# Altium schematic symbol library Inductors.SchLib: 14 symbols
Pins are listed as number, name and electrical type; pins without a type are passive.

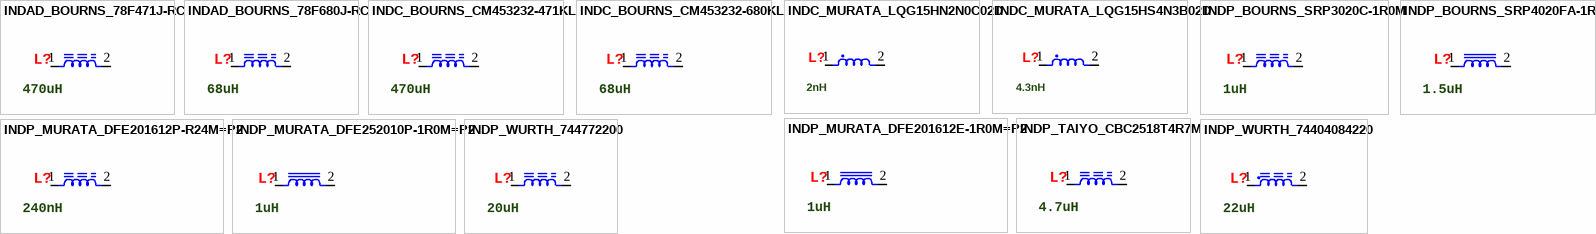
[diagram p0: symbols INDAD_BOURNS_78F471J-RC to INDP_WURTH_74404084220]

## INDAD_BOURNS_78F471J-RC
designator L?, comment 470uH
470 µH Unshielded Drum Core, Wirewound Inductor 90 mA 14Ohm Max Axial; Manufacturer: Bourns; Manufacturer Part Number: 78F471J-RC; Tolerance: 5%; DC Resistance (DCR): 14R; Current Rating: 90mA; Material - Core: Ferrite; Category: Fixed Inductors; Mounting Type: Through Hole; Case/Package: Axial; Min Operating Temperature: -55°C; Max Operating Temperature: 105°C; Inductance: 470uH; RoHS Compliant: Yes; ComponentLink1URL: https://www.bourns.com/docs/Product-Datasheets/78f_series.pdf; ComponentLink1Description: Datasheet; Supplier 1: Digi-Key; Supplier 2: Mouser; Supplier Part Number 1: M10142-ND; Supplier Part Number 2: 542-78F471-RC
footprint INDAD1827W51L711D279 (Inductor, Non-Polarized Axial Diameter; Lead Spacing 18.27mm, Lead Width 0.51mm, Body Length 7.11mm, Body Diameter 2.79mm)
simulation model Inductor (Model Description)
pins: 1, 2

## INDAD_BOURNS_78F680J-RC
designator L?, comment 68uH
68 µH Unshielded Drum Core, Wirewound Inductor 185 mA 3.3Ohm Max Axial; Manufacturer: Bourns; Manufacturer Part Number: 78F680J-RC; Tolerance: 5%; DC Resistance (DCR): 3.3R; Current Rating: 185mA; Material - Core: Ferrite; Category: Fixed Inductors; Case/Package: Axial; Min Operating Temperature: -55°C; Max Operating Temperature: 105°C; Inductance: 68uH; RoHS Compliant: Yes; ComponentLink1URL: https://www.bourns.com/docs/Product-Datasheets/78f_series.pdf; ComponentLink1Description: Datasheet; Mounting Type: Through Hole; Supplier 1: Digi-Key; Supplier 2: Mouser; Supplier Part Number 1: M10144-ND; Supplier Part Number 2: 542-78F680-RC
footprint INDAD1827W51L711D279 (Inductor, Non-Polarized Axial Diameter; Lead Spacing 18.27mm, Lead Width 0.51mm, Body Length 7.11mm, Body Diameter 2.79mm)
simulation model Inductor (Model Description)
pins: 1, 2

## INDC_BOURNS_CM453232-471KL
designator L?, comment 470uH
470 µH Unshielded Drum Core, Wirewound Inductor 62 mA 26Ohm Max 1812 (4532 Metric); Manufacturer: Bourns; Manufacturer Part Number: CM453232-471KL; Tolerance: 10%; Current Rating: 62mA; DC Resistance (DCR): 26R; Material - Core: Ferrite; Category: Fixed Inductors; Case/Package: 1812; Min Operating Temperature: -40°C; Max Operating Temperature: 100°C; Inductance: 470uH; RoHS Compliant: Yes; ComponentLink1Description: Datasheet; ComponentLink1URL: https://www.bourns.com/docs/Product-Datasheets/CM.pdf; Mounting Type: SMD/SMT; Supplier 1: Digi-Key; Supplier 2: Mouser; Supplier Part Number 1: CM453232-471KLCT-ND; Supplier Part Number 2: 652-CM453232-471KL
simulation model Inductor (Model Description)
footprint INDC4532X34L (Chip Inductor, 2-Leads, Body 4.50x3.20mm, IPC High Density)
footprint INDC4532X34N (Chip Inductor, 2-Leads, Body 4.50x3.20mm, IPC Medium Density)
footprint INDC4532X34M (Chip Inductor, 2-Leads, Body 4.50x3.20mm, IPC Low Density)
pins: 1, 2

## INDC_BOURNS_CM453232-680KL
designator L?, comment 68uH
68 µH Unshielded Drum Core, Wirewound Inductor 130 mA 6Ohm Max 1812 (4532 Metric); Manufacturer: Bourns; Manufacturer Part Number: CM453232-680KL; Tolerance: 10%; DC Resistance (DCR): 6R; Current Rating: 130mA; Material - Core: Ferrite; Category: Fixed Inductors; Case/Package: 1812; Min Operating Temperature: -40°C; Max Operating Temperature: 100°C; Inductance: 68uH; RoHS Compliant: Yes; ComponentLink1Description: Datasheet; ComponentLink1URL: https://www.bourns.com/docs/Product-Datasheets/CM.pdf; Mounting Type: SMD/SMT; Supplier 1: Digi-Key; Supplier 2: Mouser; Supplier Part Number 1: CM453232-680KLCT-ND; Supplier Part Number 2: 652-CM453232-680KL
simulation model Inductor (Model Description)
footprint INDC4532X34N (Chip Inductor, 2-Leads, Body 4.50x3.20mm, IPC Medium Density)
footprint INDC4532X34L (Chip Inductor, 2-Leads, Body 4.50x3.20mm, IPC High Density)
footprint INDC4532X34M (Chip Inductor, 2-Leads, Body 4.50x3.20mm, IPC Low Density)
pins: 1, 2

## INDC_MURATA_LQG15HN2N0C02D
designator L?, comment 2nH
2 nH Unshielded Multilayer Inductor 900 mA 90mOhm Max 0402 (1005 Metric); Manufacturer: Murata; Manufacturer Part Number: LQG15HN2N0C02D; Tolerance: ±0.2nH; Current Rating: 900mA; DC Resistance (DCR): 90mR; Material - Core: Air; Category: Fixed Inductors; Inductance: 2nH; ComponentLink1Description: Datasheet; ComponentLink1URL: https://search.murata.co.jp/Ceramy/image/img/P02/JELF243B-0009.pdf; Min Operating Temperature: -55°C; Max Operating Temperature: 125°C; Case/Package: 0402; RoHS Compliant: Yes; Supplier 1: Digi-Key; Supplier Part Number 1: 490-15076-1-ND; Supplier 2: Mouser; Supplier Part Number 2: 81-LQG15HN2N0C02D; Mounting Type: SMD/SMT
footprint INDC1005X55N (Chip Inductor, EIA 0402, Metric 1005, Body 1.00x0.50mm, IPC Medium Density)
footprint INDC1005X55M (Chip Inductor, EIA 0402, Metric 1005, Body 1.00x0.50mm, IPC Low Density)
footprint INDC1005X55L (Chip Inductor, EIA 0402, Metric 1005, Body 1.00x0.50mm, IPC High Density)
simulation model LQG15HN2N0C02 (Model Description)
pins: 1, 2

## INDC_MURATA_LQG15HS4N3B02D
designator L?, comment 4.3nH
4.3 nH Unshielded Multilayer Inductor 750 mA 140mOhm Max 0402 (1005 Metric); Manufacturer: Murata; Manufacturer Part Number: LQG15HS4N3B02D; Tolerance: ±0.1nH; Current Rating: 750mA; DC Resistance (DCR): 140mR; Material - Core: Air; Category: Fixed Inductors; Inductance: 4.3nH; ComponentLink1Description: Datasheet; ComponentLink1URL: https://search.murata.co.jp/Ceramy/image/img/P02/JELF243B-0010.pdf; Min Operating Temperature: -55°C; Max Operating Temperature: 125°C; Case/Package: 0402; RoHS Compliant: Yes; Supplier 1: Digi-Key; Supplier Part Number 1: 490-LQG15HS4N3B02DCT-ND; Supplier 2: Mouser; Supplier Part Number 2: 81-LQG15HS4N3B02D; Mounting Type: SMD/SMT
footprint INDC1005X55N (Chip Inductor, EIA 0402, Metric 1005, Body 1.00x0.50mm, IPC Medium Density)
footprint INDC1005X55M (Chip Inductor, EIA 0402, Metric 1005, Body 1.00x0.50mm, IPC Low Density)
footprint INDC1005X55L (Chip Inductor, EIA 0402, Metric 1005, Body 1.00x0.50mm, IPC High Density)
simulation model LQG15HS4N3B02 (Model Description)
pins: 1, 2

## INDP_BOURNS_SRP3020C-1R0M
designator L?, comment 1uH
1 µH Shielded Inductor 5 A 36mOhm Max Nonstandard; Manufacturer: Bourns; Manufacturer Part Number: SRP3020C-1R0M; Current Rating: 5A; DC Resistance (DCR): 36mR; Material - Core: Ferrite; Tolerance: ±20%; Category: Fixed Inductors; ComponentLink1Description: Datasheet; ComponentLink1URL: https://www.bourns.com/docs/product-datasheets/srp3020c.pdf; Case/Package: Nonstandard; Inductance: 1uH; Max Operating Temperature: 125°C; Min Operating Temperature: -40°C; RoHS Compliant: Yes; Supplier 1: Digi-Key; Supplier Part Number 1: 118-SRP3020C-1R0MCT-ND; Supplier 2: Mouser; Supplier Part Number 2: 652-SRP3020C-1R0M; Mounting Type: SMD/SMT
footprint INDP3532X20N (Precision Wire Wound Inductor, 2-Leads, Body 3.50x3.20mm, IPC Medium Density)
footprint INDP3532X20L (Precision Wire Wound Inductor, 2-Leads, Body 3.50x3.20mm, IPC High Density)
footprint INDP3532X20M (Precision Wire Wound Inductor, 2-Leads, Body 3.50x3.20mm, IPC Low Density)
simulation model Inductor (Model Description)
pins: 1, 2

## INDP_BOURNS_SRP4020FA-1R5M
designator L?, comment 1.5uH
1.5 µH Shielded Drum Core, Wirewound Inductor 9.1 A 15.8mOhm Max Nonstandard; Manufacturer: Bourns; Manufacturer Part Number: SRP4020FA-1R5M; Tolerance: ±20%; Current Rating: 9.1A; DC Resistance (DCR): 15.8mR; Material - Core: Iron Powder; Category: Fixed Inductors; Case/Package: Nonstandard; Min Operating Temperature: -55°C; Max Operating Temperature: 155°C; Inductance: 1.5uH; RoHS Compliant: Yes; ComponentLink1URL: https://www.bourns.com/docs/Product-Datasheets/SRP4020FA.pdf; ComponentLink1Description: Datasheet; Supplier 1: Mouser; Supplier Part Number 1: 652-SRP4020FA-1R5M; Mounting Type: SMD/SMT
footprint INDP4141X21N (Precision Wire Wound Inductor, 2-Leads, Body 4.10x4.10mm, IPC Medium Density)
footprint INDP4141X21M (Precision Wire Wound Inductor, 2-Leads, Body 4.10x4.10mm, IPC Low Density)
footprint INDP4141X21L (Precision Wire Wound Inductor, 2-Leads, Body 4.10x4.10mm, IPC High Density)
simulation model Inductor (Model Description)
pins: 1, 2

## INDP_MURATA_DFE201612E-1R0M=P2
designator L?, comment 1uH
1 µH Shielded Drum Core, Wirewound Inductor 2.9 A 48mOhm Max 0806 (2016 Metric); Manufacturer: Murata; Manufacturer Part Number: DFE201612E-1R0M=P2; Current Rating: 2.9A; DC Resistance (DCR): 48mR; Material - Core: Iron Powder; Tolerance: ±20%; Category: Fixed Inductors; RoHS Compliant: Yes; ComponentLink1URL: https://search.murata.co.jp/Ceramy/image/img/P02/J(E)TE243A-0006.pdf; ComponentLink1Description: Datasheet; Case/Package: 0806; Inductance: 1uH; Max Operating Temperature: 125°C; Min Operating Temperature: -40°C; Supplier 1: Digi-Key; Supplier Part Number 1: 490-16593-1-ND; Supplier 2: Mouser; Supplier Part Number 2: 81-DFE201612E-1R0MP2; Mounting Type: SMD/SMT
footprint INDC2016X12N (Chip Inductor, EIA 0806, Metric 2016, Body 2.00x1.60mm, IPC Medium Density)
footprint INDC2016X12L (Chip Inductor, EIA 0806, Metric 2016, Body 2.00x1.60mm, IPC High Density)
footprint INDC2016X12M (Chip Inductor, EIA 0806, Metric 2016, Body 2.00x1.60mm, IPC Low Density)
simulation model DFE201612E-1R0M (Model Description)
pins: 1, 2

## INDP_MURATA_DFE201612P-R24M=P2
designator L?, comment 240nH
240 nH Shielded Drum Core, Wirewound Inductor 6.5 A 23mOhm Max 0806 (2016 Metric); Manufacturer: Murata; Manufacturer Part Number: DFE201612P-R24M=P2; Current Rating: 6.5A; DC Resistance (DCR): 23mR; Tolerance: ±20%; Material - Core: Ferrite; Category: Fixed Inductors; Case/Package: 0806; Min Operating Temperature: -40°C; Max Operating Temperature: 125°C; Inductance: 240nH; RoHS Compliant: Yes; ComponentLink1URL: https://search.murata.co.jp/Ceramy/image/img/P02/J(E)TE243A-0033.pdf; ComponentLink1Description: Datasheet; Supplier 1: Digi-Key; Supplier Part Number 1: 490-10621-1-ND; Supplier 2: Mouser; Supplier Part Number 2: 81-DFE201612P-R24MP2; Mounting Type: SMD/SMT
footprint INDC2016X12N (Chip Inductor, EIA 0806, Metric 2016, Body 2.00x1.60mm, IPC Medium Density)
footprint INDC2016X12L (Chip Inductor, EIA 0806, Metric 2016, Body 2.00x1.60mm, IPC High Density)
footprint INDC2016X12M (Chip Inductor, EIA 0806, Metric 2016, Body 2.00x1.60mm, IPC Low Density)
simulation model DFE201612E-R24M (Model Description)
pins: 1, 2

## INDP_MURATA_DFE252010P-1R0M=P2
designator L?, comment 1uH
1 µH Shielded Drum Core, Wirewound Inductor 3.8 A 54mOhm Max 1008 (2520 Metric); Manufacturer: Murata; Manufacturer Part Number: DFE252010P-1R0M=P2; Current Rating: 3.8A; DC Resistance (DCR): 54mR; Tolerance: ±20%; Material - Core: Iron Powder; Category: Fixed Inductors; Case/Package: 1008; Min Operating Temperature: -40°C; Max Operating Temperature: 125°C; Inductance: 1uH; RoHS Compliant: Yes; ComponentLink1URL: https://www.murata.com/~/media/webrenewal/products/inductor/chip/tokoproducts/wirewoundmetalalloychiptype/m_dfe252010p.ashx; ComponentLink1Description: Datasheet; Supplier 1: Digi-Key; Supplier Part Number 1: 490-10634-1-ND; Supplier 2: Mouser; Supplier Part Number 2: 81-DFE252010P-1R0MP2; Mounting Type: SMD/SMT
footprint INDC2520X10N (Chip Inductor, EIA 1008, Metric 2520, Body 2.50x2.00mm, IPC Medium Density)
footprint INDC2520X10L (Chip Inductor, EIA 1008, Metric 2520, Body 2.50x2.00mm, IPC High Density)
footprint INDC2520X10M (Chip Inductor, EIA 1008, Metric 2520, Body 2.50x2.00mm, IPC Low Density)
simulation model DFE252010P-1R0M (Model Description)
pins: 1, 2

## INDP_TAIYO_CBC2518T4R7M
designator L?, comment 4.7uH
4.7 µH Unshielded Drum Core, Wirewound Inductor 920 mA 260mOhm Max 1007 (2518 Metric); Manufacturer: Taiyo Yuden; Manufacturer Part Number: CBC2518T4R7M; Tolerance: ±20%; DC Resistance (DCR): 260mR; Current Rating: 920mA; Material - Core: Ferrite; Category: Fixed Inductors; Case/Package: 1007; Min Operating Temperature: -40°C; Max Operating Temperature: 105°C; Inductance: 4.7uH; RoHS Compliant: Yes; ComponentLink1URL: https://media.digikey.com/pdf/Data%20Sheets/Taiyo%20Yuden%20PDFs%20URL%20links/CBC2518T4R7M_SS.pdf; ComponentLink1Description: Datasheet; Supplier 1: Digi-Key; Supplier Part Number 1: 587-1621-1-ND; Supplier 2: Mouser; Supplier Part Number 2: 963-CBC2518T4R7M; Mounting Type: SMD/SMT
footprint INDC2518X10N (Chip Inductor, EIA 1007, Metric 2518, Body 2.50x1.80mm, IPC Medium Density)
footprint INDC2518X10L (Chip Inductor, EIA 1007, Metric 2518, Body 2.50x1.80mm, IPC High Density)
footprint INDC2518X10M (Chip Inductor, EIA 1007, Metric 2518, Body 2.50x1.80mm, IPC Low Density)
simulation model LSQPA251818T4R7 (Model Description)
pins: 1, 2

## INDP_WURTH_744772200
designator L?, comment 20uH
20 µH Unshielded Drum Core, Wirewound Inductor 2.6 A 50mOhm Max Radial, Vertical Cylinder (Open); Manufacturer: Wurth Electronics; Manufacturer Part Number: 744772200; Current Rating: 2.6A; Tolerance: 10%; DC Resistance (DCR): 50mR; Material - Core: Ferrite; Category: Fixed Inductors; Case/Package: Radial; Min Operating Temperature: -40°C; Max Operating Temperature: 125°C; Inductance: 20uH; RoHS Compliant: Yes; ComponentLink1URL: https://media.digikey.com/pdf/Data%20Sheets/Wurth%20Electronics%20PDFs/744772200.pdf; ComponentLink1Description: Datasheet; Mounting Type: Through Hole; Supplier 1: Digi-Key; Supplier 2: Mouser; Supplier Part Number 1: 732-3765-ND; Supplier Part Number 2: 710-744772200
footprint WURTH_744772200 (20 µH Unshielded Drum Core, Wirewound Inductor 2.6 A 50mOhm Max Radial, Vertical Cylinder (Open))
simulation model Inductor (Model Description)
pins: 1, 2

## INDP_WURTH_74404084220
designator L?, comment 22uH
22 µH Semi-Shielded Drum Core, Wirewound Inductor 2.1 A 69mOhm Nonstandard; Manufacturer: Wurth Electronics; Manufacturer Part Number: 74404084220; Current Rating: 2.1A; DC Resistance (DCR): 69mR; Tolerance: 20%; Material - Core: Ferrite; Category: Fixed Inductors; Case/Package: Nonstandard; Min Operating Temperature: -40°C; Max Operating Temperature: 125°C; Inductance: 22uH; RoHS Compliant: Yes; ComponentLink1Description: Datasheet; ComponentLink1URL: https://www.we-online.com/components/products/datasheet/74404084220.pdf; Mounting Type: SMD/SMT; Supplier 1: Digi-Key; Supplier 2: Mouser; Supplier Part Number 1: 732-5570-1-ND; Supplier Part Number 2: 710-74404084220
simulation model LQS_8040_74404084220_22u (Model Description)
footprint INDP8080X42N (Precision Wire Wound Inductor, 2-Leads, Body 8.00x8.00mm, IPC Medium Density)
footprint INDP8080X42L (Precision Wire Wound Inductor, 2-Leads, Body 8.00x8.00mm, IPC High Density)
footprint INDP8080X42M (Precision Wire Wound Inductor, 2-Leads, Body 8.00x8.00mm, IPC Low Density)
pins: 1, 2